# EAGLE library part A4988 (library A4988)
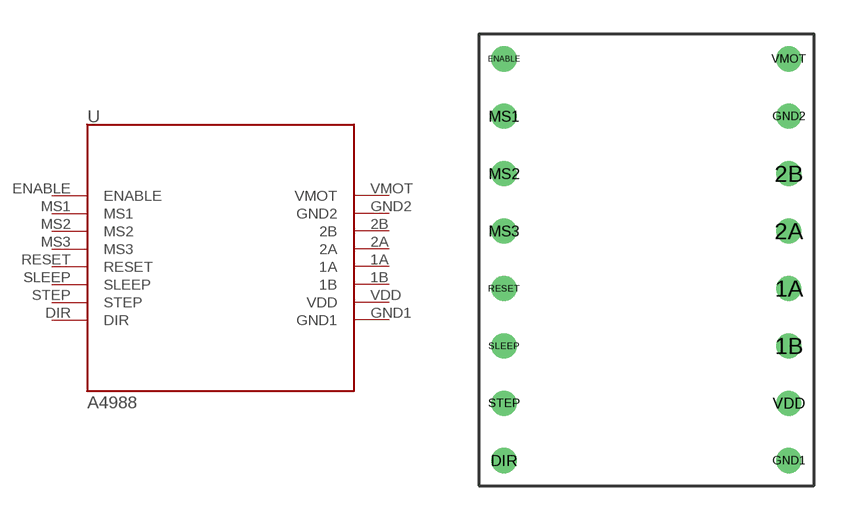
[diagram p0: symbol with the pads of A4988_FOOTPRINT; footprint A4988_FOOTPRINT]

Designator prefix -

## A4988  [A4988_FOOTPRINT]
1A  1A
1B  1B
2A  2A
2B  2B
DIR  DIR
ENABLE  ENABLE
GND1  GND1
GND2  GND2
MS1  MS1
MS2  MS2
MS3  MS3
RESET  RESET
SLEEP  SLEEP
STEP  STEP
VDD  VDD
VMOT  VMOT

## Footprint A4988_FOOTPRINT (pad centres in mm)
drill 0.6: 1A -2.64,-1.27; 1B -2.64,-3.81; 2A -2.64,1.27; 2B -2.64,3.81; DIR -15.24,-8.89; ENABLE -15.24,8.89; GND1 -2.64,-8.89; GND2 -2.64,6.35; MS1 -15.24,6.35; MS2 -15.24,3.81; MS3 -15.24,1.27; RESET -15.24,-1.27; SLEEP -15.24,-3.81; STEP -15.24,-6.35; VDD -2.64,-6.35; VMOT -2.64,8.89